# Altium footprint library DISPLAYS.PcbLib: 2 footprints
Each footprint in its own frame and in the unit in brackets; x right, y up, seen from the top. Pads: shape width x height; smd on the part's side, far side on the other; paste and mask are expansions set on the pad; w line width, h text height; cw(c..) or ccw(c..) is an arc to the next point about the centre after c.
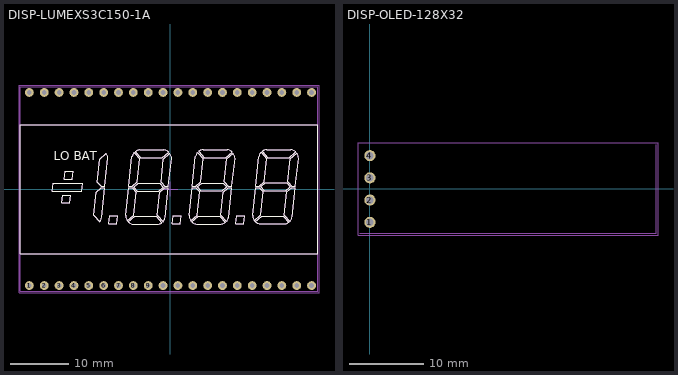
[diagram p0: the footprints below, top view; thin cyan lines are the x and y axes]

## DISP-LUMEXS3C150-1A [mm] "3.5 DIGIT LCD WITH SIGN AND LOW BAT"
pads (40):
  round 1.5 hole 0.8 mask+0.1: 1(-24.13,-16.51) 2(-21.59,-16.51) 3(-19.05,-16.51) 4(-16.51,-16.51) 5(-13.97,-16.51) 6(-11.43,-16.51) 7(-8.89,-16.51) 8(-6.35,-16.51) 9(-3.81,-16.51) 10(-1.27,-16.51) 11(1.27,-16.51) 12(3.81,-16.51) 13(6.35,-16.51) 14(8.89,-16.51) 15(11.43,-16.51) 16(13.97,-16.51) 17(16.51,-16.51) 18(19.05,-16.51) 19(21.59,-16.51) 20(24.13,-16.51) 21(24.13,16.51) 22(21.59,16.51) 23(19.05,16.51) 24(16.51,16.51) 25(13.97,16.51) 26(11.43,16.51) 27(8.89,16.51) 28(6.35,16.51) 29(3.81,16.51) 30(1.27,16.51) 31(-1.27,16.51) 32(-3.81,16.51) 33(-6.35,16.51) 34(-8.89,16.51) 35(-11.43,16.51) 36(-13.97,16.51) 37(-16.51,16.51) 38(-19.05,16.51) 39(-21.59,16.51) 40(-24.13,16.51)
Top Overlay:
  drawing of 166 lines, arcs and shapes, not listed
  text "LO BAT" at -19.976,4.407 h2.6
Top Courtyard:
  lines w0.115: -1.27,0 0,0 ; 0,-1.27 0,0 ; 0,1.27 0,0 ; 1.27,0 0,0 ; -25.908,-17.78 -25.908,17.78 25.4,17.78 25.4,-17.78 -25.908,-17.78
Top Assembly:
  drawing of 170 lines, arcs and shapes, not listed
3D body "LCD35.STEP": height 4.44, standoff -8, extent -25.654,-17.526 25.146,17.413

## DISP-OLED-128X32 [mm]
pads (4):
  round 1.5 hole 1 mask+0.05: 1(0,-4.5) 2(0,-1.5) 3(0,1.5) 4(0,4.5)
Top Courtyard:
  lines w0.05: -1.605,-6.253 38.895,-6.253 38.895,6.247 -1.605,6.247 -1.605,-6.253
Top Assembly:
  lines w0.05: 38.638,-6 -1.362,-6 38.638,-6 ; 38.638,-6 38.638,6 38.638,-6
3D body "User Library-OLED 32x 128.STEP": height 5.46, standoff -3.5, extent -1.362,-6 38.638,6